# Altium footprint library DB-X01.PcbLib: 32 footprints (part 1 of 2)
Each footprint in its own frame and in the unit in brackets; x right, y up, seen from the top. Pads: shape width x height; smd on the part's side, far side on the other; paste and mask are expansions set on the pad; w line width, h text height; cw(c..) or ccw(c..) is an arc to the next point about the centre after c.
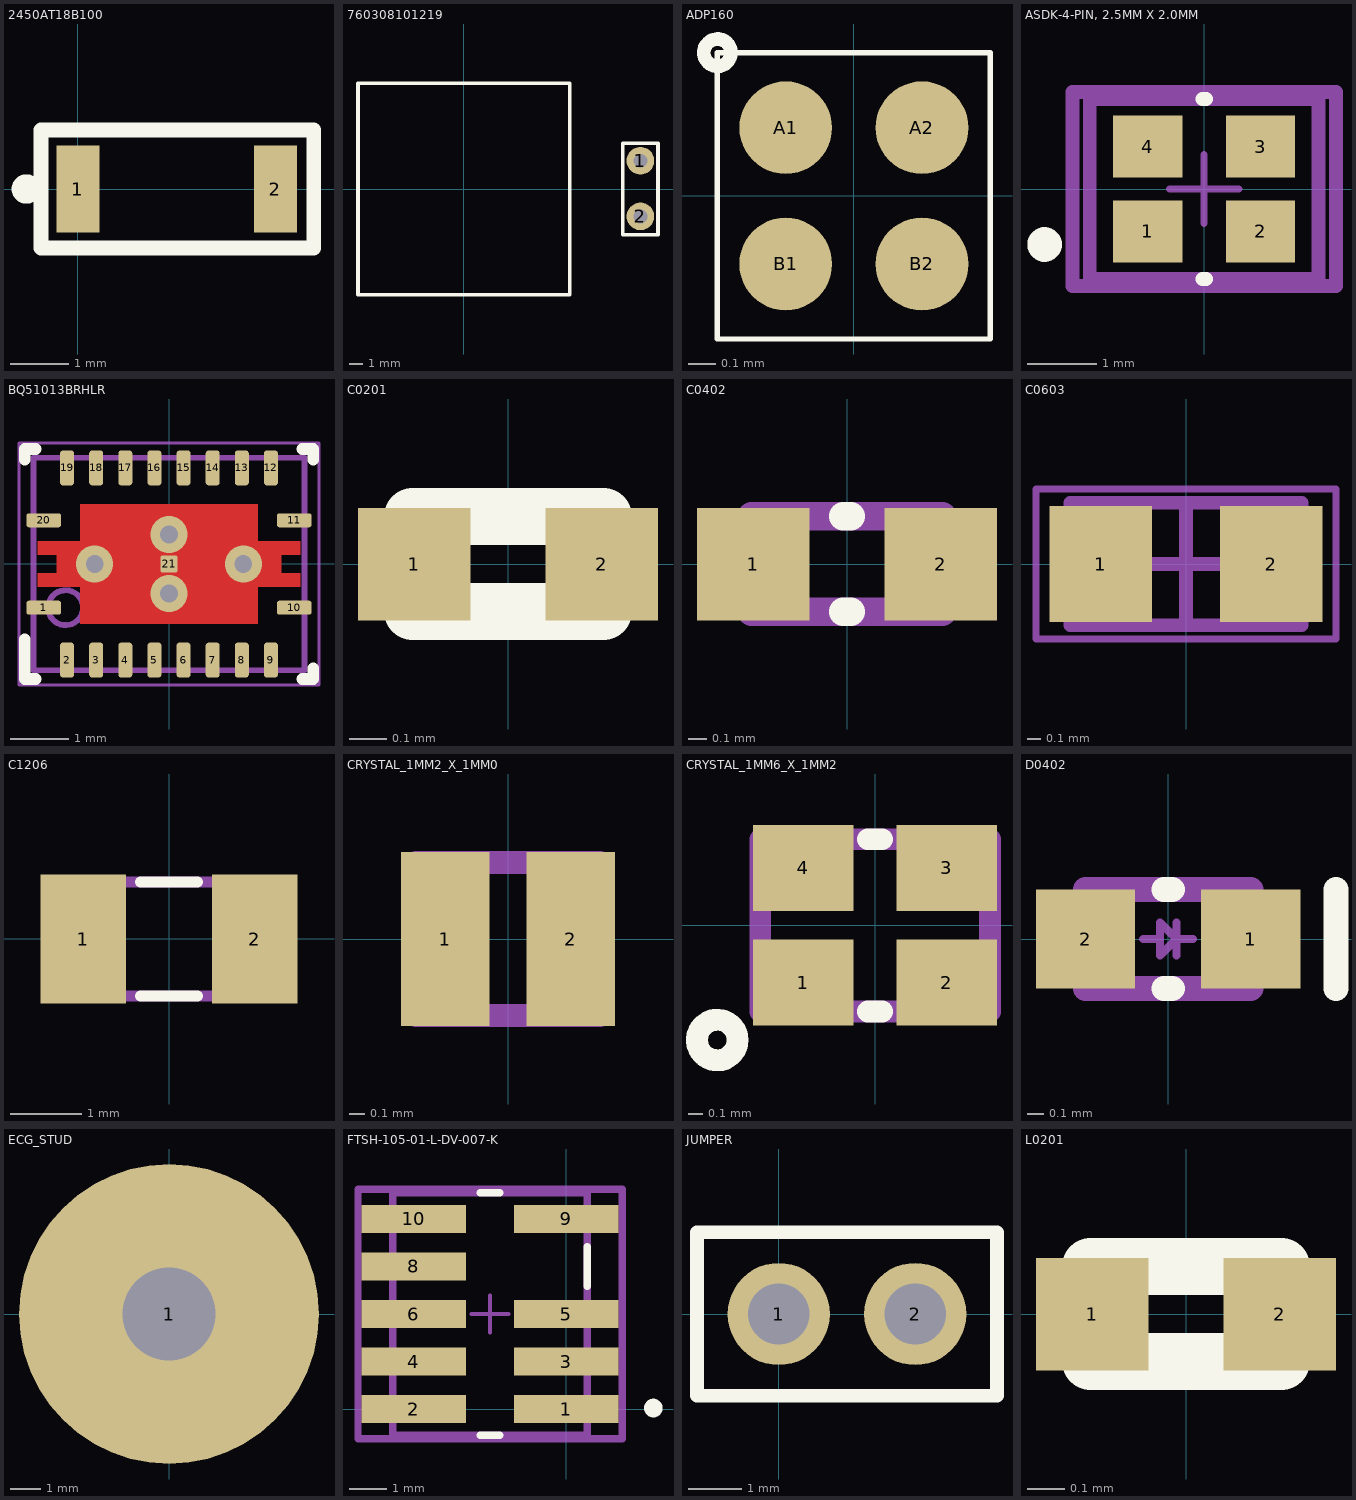
[diagram p0: the footprints below, top view; thin cyan lines are the x and y axes]

## 2450AT18B100 [mm] "2.4GHz Mini Antenna SMD, 50 ohm Resistence"
height 1.35
pads (2):
  rect 0.74x1.5 smd mask+0.03: 1(0,0) 2(3.406,0)
Top Overlay:
  circle w0.254: c-0.889,0 r0.127
  lines w0.254: -0.635,-1.016 4.064,-1.016 4.064,1.016 -0.635,1.016 -0.635,-1.016
3D body: height 1.4, standoff 0, extent -0.049,-0.9 3.351,0.9

## 760308101219 [mm] "WE-WPCC WIRELESS POWER TRANSFER RECEIVER COIL"
height 0.6
pads (2):
  round 2 hole 1: 1(12.7,2.032) 2(12.7,-1.968)
Top Overlay:
  lines w0.254: -7.62,-7.62 -7.62,7.62 7.62,7.62 7.62,-7.62 -7.62,-7.62 ; 11.43,-3.302 11.43,3.302 13.97,3.302 13.97,-3.302 11.43,-3.302
3D body "760308101219_Download_STP_760308101219_rev1.stp": height 1.34, standoff 0.47, extent -7.5,-7.5 32.5,10.607

## ADP160 [mm] "4-Ball WLCSP, CB-4-4"
height 0.595
pads (4):
  round 0.34 smd paste+0.01 mask+0.01: A1(-0.25,0.25) A2(0.25,0.25) B1(-0.25,-0.25) B2(0.25,-0.25)
Top Overlay:
  circle w0.05: c-0.5,0.525 r0.05
  lines w0.02: -0.5,-0.525 -0.5,0.525 0.5,0.525 0.5,-0.525 -0.5,-0.525
3D body: height 0.69, standoff 0.21, extent -0.48,-0.48 0.48,0.48

## ASDK-4-PIN, 2.5MM X 2.0MM [mm]
pads (4):
  rect 1x0.9 smd paste+0 mask+0: 1(-0.813,-0.613) 2(0.813,-0.613) 3(0.813,0.613) 4(-0.813,0.613)
Top Overlay:
  circle w0.25: c-2.3,-0.8 r0.125
  lines w0.2: -0.025,-1.3 0.025,-1.3 ; -0.025,1.3 0.025,1.3
Mechanical 13:
  lines w0.2: -1.65,-1.3 1.65,-1.3 1.65,1.3 -1.65,1.3 -1.65,-1.3
Mechanical 15:
  lines w0.2: -1.9,-1.4 1.9,-1.4 1.9,1.4 -1.9,1.4 -1.9,-1.4
Mechanical 16:
  lines w0.1: -0.5,0 0.5,0 ; 0,-0.5 0,0.5
3D body "ASDK.STEP": height 0.96, standoff 0.01, extent -1.25,-1 1.25,1

## BQ51013BRHLR [mm]
pads (21):
  rrect42% 0.6x0.24 smd: 1(-2.15,-0.75) 10(2.15,-0.75) 11(2.15,0.75) 20(-2.15,0.75)
  rrect42% 0.24x0.6 smd: 2(-1.75,-1.65) 3(-1.25,-1.65) 4(-0.75,-1.65) 5(-0.25,-1.65) 6(0.25,-1.65) 7(0.75,-1.65) 8(1.25,-1.65) 9(1.75,-1.65) 12(1.75,1.65) 13(1.25,1.65) 14(0.75,1.65) 15(0.25,1.65) 16(-0.25,1.65) 17(-0.75,1.65) 18(-1.25,1.65) 19(-1.75,1.65)
  rrect33% 0.3x0.3 smd paste-0.15 mask+0: 21(0,0)
via 0,0.508 diameter 0.635 hole 0.305
via 0,-0.508 diameter 0.635 hole 0.305
via 1.275,0 diameter 0.635 hole 0.305
via -1.275,0 diameter 0.635 hole 0.305
Top Layer:
  region: -2.25,0.16 -1.925,0.16 -1.925,-0.16 -2.25,-0.16 -2.25,-0.39 -1.525,-0.39 -1.525,-1.025 1.525,-1.025 1.525,-0.39 2.25,-0.39 2.25,-0.16 1.925,-0.16 1.925,0.16 2.25,0.16 2.25,0.39 1.525,0.39 1.525,1.025 -1.525,1.025 -1.525,0.39 -2.25,0.39
Top Overlay:
  lines w0.2: -2.475,-1.29 -2.475,-1.975 -2.29,-1.975 ; -2.475,1.79 -2.475,1.975 -2.29,1.975 ; 2.29,-1.975 2.475,-1.975 2.475,-1.79 ; 2.29,1.975 2.475,1.975 2.475,1.79
Top Paste:
  region: 1.925,-0.39 1.925,0.39 1.628,0.39 1.628,-0.39
  region: -1.628,-0.39 -1.628,0.39 -1.925,0.39 -1.925,-0.39
  region: -0.1,0.1 -0.1,1.017 -1.428,1.017 -1.428,0.1
  region: -1.428,-0.1 -1.428,-1.017 -0.1,-1.017 -0.1,-0.1
  region: 0.1,-0.1 0.1,-1.017 1.428,-1.017 1.428,-0.1
  region: 1.428,0.1 1.428,1.017 0.1,1.017 0.1,0.1
Mechanical 1:
  text ".Designator" at 0.508,-1.651 h0.89
Mechanical 13:
  circle w0.1: c-1.775,-0.75 r0.3
  lines w0.1: -2.325,-1.825 2.325,-1.825 2.325,1.825 -2.325,1.825 -2.325,-1.825
Mechanical 15:
  lines w0.05: -2.575,-2.075 2.575,-2.075 2.575,2.075 -2.575,2.075 -2.575,-2.075
  lines w0.1: -0.5,0 0.5,0 ; 0,-0.5 0,0.5
3D body: height 1, standoff 0, extent -2.325,-1.825 2.325,1.825
3D body: height 1.01, standoff 0.5, extent -2.075,-1.05 -1.476,-0.451

## C0201 [mm] "Experimental"
pads (2):
  rect 0.3x0.3 smd mask+0.036: 1(-0.25,0) 2(0.25,0)
Top Overlay:
  lines w0.152: -0.254,-0.127 -0.254,0.127 0.254,0.127 0.254,-0.127 -0.254,-0.127

## C0402 [mm]
pads (2):
  rect 0.6x0.6 smd: 1(-0.5,0) 2(0.5,0)
Top Overlay:
  lines w0.152: -0.02,-0.254 0.02,-0.254 ; -0.02,0.254 0.02,0.254
Mechanical 3:
  lines w0.152: -0.508,-0.254 -0.508,0.254 0.508,0.254 0.508,-0.254 -0.508,-0.254
3D body "C0402.stp": height 0.55, standoff 0, extent -0.5,-0.25 0.5,0.25

## C0603 [mm]
height 0.9
pads (2):
  rect 0.75x0.85 smd: 1(-0.625,0) 2(0.625,0)
Mechanical 13:
  lines w0.1: -0.85,-0.45 0.85,-0.45 0.85,0.45 -0.85,0.45 -0.85,-0.45
Mechanical 15:
  lines w0.05: -1.1,-0.55 1.1,-0.55 1.1,0.55 -1.1,0.55 -1.1,-0.55
  lines w0.1: -0.45,0 0.45,0 ; 0,-0.45 0,0.45
3D body: height 0.9, standoff 0, extent 0.5,-0.45 0.85,0.45
3D body: height 0.9, standoff 0, extent -0.85,-0.45 -0.5,0.45
3D body: height 0.9, standoff 0, extent -0.5,-0.45 0.5,0.45

## C1206 [mm] "Chip Capacitor; Body 3.2 x 1.8 mm (LxW typ)"
height 1.7
pads (2):
  rect 1.2x1.8 smd: 1(-1.2,0) 2(1.2,0)
Top Overlay:
  lines w0.152: -0.4,-0.8 0.4,-0.8 ; -0.4,0.8 0.4,0.8
Mechanical 3:
  lines w0.152: -1.524,-0.8 1.524,-0.8 1.524,0.8 -1.524,0.8 -1.524,-0.8
3D body: height 1, standoff 0, extent -0.7,-0.8 0.7,0.8
3D body: height 1, standoff 0, extent -1.6,-0.8 -0.7,0.8
3D body: height 1, standoff 0, extent 0.7,-0.8 1.6,0.8

## CRYSTAL_1MM2_X_1MM0 [mm] "Crystal 1.2 x 1.0 x 0.35mm"
pads (2):
  rect 0.575x1.14 smd paste-0.5 mask+0.06: 1(-0.41,0) 2(0.41,0)
Mechanical 3:
  lines w0.152: -0.6,-0.5 -0.6,0.5 0.6,0.5 0.6,-0.5 -0.6,-0.5
3D body: height 0.35, standoff 0, extent -0.6,-0.5 0.6,0.5

## CRYSTAL_1MM6_X_1MM2 [mm] "1.6 x 1.2 x 0.35mm 4-pin crystal"
pads (4):
  rect 0.7x0.6 smd mask+0.036: 1(-0.5,-0.4) 2(0.5,-0.4) 3(0.5,0.4) 4(-0.5,0.4)
Top Overlay:
  circle w0.152: c-1.1,-0.8 r0.141
  lines w0.152: -0.05,-0.6 0.05,-0.6 ; -0.05,0.6 0.05,0.6
Mechanical 3:
  lines w0.152: -0.8,-0.6 -0.8,0.6 0.8,0.6 0.8,-0.6 -0.8,-0.6
3D body: height 0.35, standoff 0, extent -0.8,-0.6 0.8,0.6

## D0402 [mm] "1.0x0.6x0.5mm for RB751S-40L2"
pads (2):
  rect 0.6x0.6 smd mask+0.09: 1(0.5,0) 2(-0.5,0)
Top Overlay:
  lines w0.152: -0.025,-0.3 0.025,-0.3 ; -0.025,0.3 0.025,0.3 ; 1.016,-0.3 1.016,0.3
Mechanical 3:
  lines w0.05: -0.15,0 -0.05,0 ; 0.05,-0.1 0.05,0.1 ; 0.15,0 0.05,0 ; 0.05,0 -0.05,0.1 -0.05,-0.1 0.05,0
  lines w0.152: -0.5,-0.3 0.5,-0.3 0.5,0.3 -0.5,0.3 -0.5,-0.3
3D body: height 0.5, standoff 0, extent -0.5,-0.3 0.5,0.3

## ECG_STUD [mm] "996 STUD/EYELET COMBO"
pads (1):
  round 10 hole 3.1: 1(0,0)
3D body "996_Stud_Eyelet.STEP": height 2.86, standoff -6.31, extent -5.156,-5.156 5.156,5.156

## FTSH-105-01-L-DV-007-K [mm]
pads (9):
  rect 2.79x0.74 smd paste+0 mask+0: 1(0,0) 2(-4.07,0) 3(0,1.27) 4(-4.07,1.27) 5(0,2.54) 6(-4.07,2.54) 8(-4.07,3.81) 9(0,5.08) 10(-4.07,5.08)
Top Overlay:
  circle w0.25: c2.33,0.025 r0.125
  lines w0.2: -2.3,-0.7 -1.77,-0.7 ; -2.3,5.78 -1.77,5.78 ; 0.57,3.285 0.57,4.335
Top 3D Body:
  lines w0.2: -4.64,-0.7 -4.64,5.78 0.57,5.78 0.57,-0.7 -4.64,-0.7
Top Courtyard:
  lines w0.2: -5.565,-0.8 -5.565,5.88 1.495,5.88 1.495,-0.8 -5.565,-0.8
Top Assembly:
  lines w0.2: -5.565,-0.8 -5.565,5.88 1.495,5.88 1.495,-0.8 -5.565,-0.8
  text ".Designator" at -1.942,2.54 h0.51
Top Component Center:
  lines w0.1: -2.535,2.54 -1.535,2.54 ; -2.035,2.04 -2.035,3.04
3D body "Conn_Samtec_FTSH-105-01-L-DV-007-K_eec.STEP": height 0.25, standoff 0, extent -5.565,-0.8 1.495,5.88

## JUMPER [mil]
pads (2):
  round 75 hole 45: 1(0,0) 2(100,0)
Top Overlay:
  lines w10: -60,-60 -60,60 160,60 160,-60 -60,-60
3D body "Jumper Closed.stp": height 343.31, standoff -120.08, extent -49.99,-50.09 150.01,49.91

## L0201 [mm] "Experimental"
pads (2):
  rect 0.3x0.3 smd mask+0.036: 1(-0.25,0) 2(0.25,0)
Top Overlay:
  lines w0.152: -0.254,-0.127 0.254,-0.127 0.254,0.127 -0.254,0.127 -0.254,-0.127